# EAGLE library part FXTH87 (library custom)
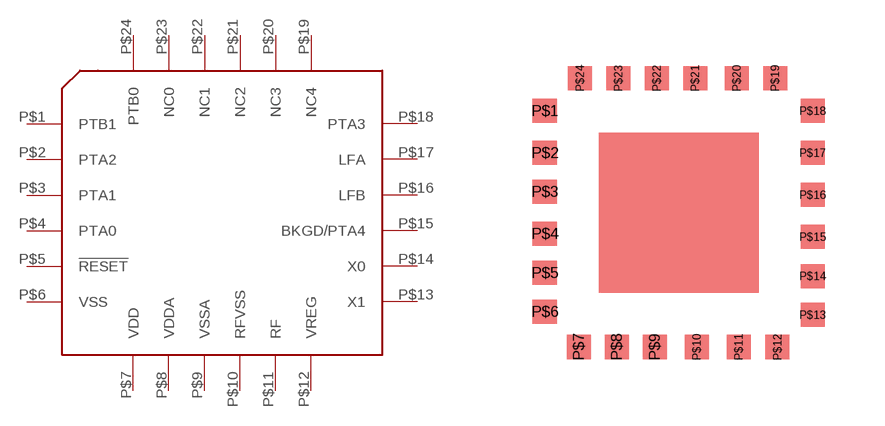
[diagram p3: symbol with the pads of FXTH87; footprint FXTH87]

Designator prefix U

## FXTH87  [FXTH87]
P$1  PTB1
P$2  PTA2
P$3  PTA1
P$4  PTA0
P$5  !RESET
P$6  VSS
P$7  VDD
P$8  VDDA
P$9  VSSA
P$10  RFVSS
P$11  RF
P$12  VREG
P$13  X1
P$14  X0
P$15  BKGD/PTA4
P$16  LFB
P$17  LFA
P$18  PTA3
P$19  NC4  nc
P$20  NC3  nc
P$21  NC2  nc
P$22  NC1  nc
P$23  NC0  nc
P$24  PTB0

## Footprint FXTH87 (pad centres in mm)
smd 0.61 x 0.6: P$1 -3.35,2.55; P$2 -3.35,1.5; P$3 -3.35,0.53; P$4 -3.35,-0.52; P$5 -3.35,-1.5; P$6 -3.35,-2.47; P$13 3.35,-2.55; P$14 3.35,-1.58; P$15 3.35,-0.6; P$16 3.35,0.45; P$17 3.35,1.5; P$18 3.35,2.55
smd 0.6 x 0.61: P$7 -2.5,-3.35; P$8 -1.55,-3.35; P$9 -0.6,-3.35; P$10 0.45,-3.35; P$11 1.5,-3.35; P$12 2.47,-3.35; P$19 2.41,3.37; P$20 1.45,3.37; P$21 0.41,3.37; P$22 -0.55,3.37; P$23 -1.51,3.37; P$24 -2.47,3.37